# Altium schematic symbol library wifi_car.SchLib: 2 symbols
Pins are listed as number, name and electrical type; pins without a type are passive.

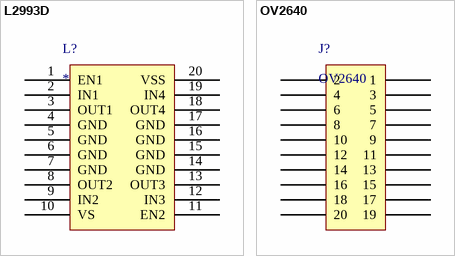
[diagram p0: symbols L2993D to OV2640]

## L2993D
designator L?
pins: 1 EN1, 2 IN1, 3 OUT1, 4 GND, 5 GND, 6 GND, 7 GND, 8 OUT2, 9 IN2, 10 VS, 11 EN2, 12 IN3, 13 OUT3, 14 GND, 15 GND, 16 GND, 17 GND, 18 OUT4, 19 IN4, 20 VSS

## OV2640
designator J?
pins: 1, 2, 3, 4, 5, 6, 7, 8, 9, 10, 11, 12, 13, 14, 15, 16, 17, 18, 19, 20